# EAGLE library part 2129691-1 (library 2129691-1)
Conn USB 3.1 Type C RCP 24 POS Solder RA SMD 24 Terminal 1 Port T/R
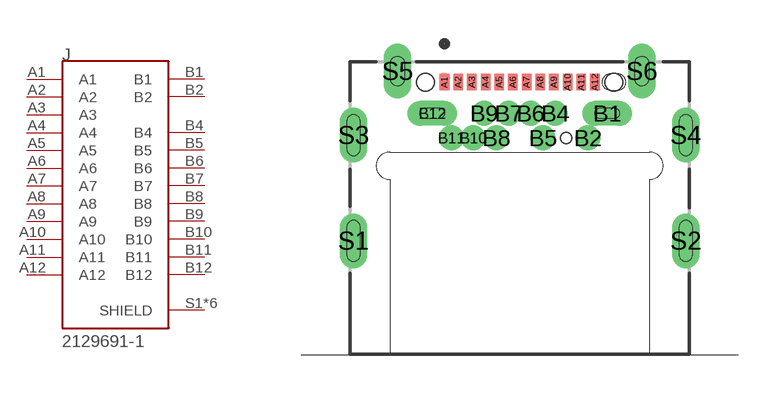
[diagram p0: symbol with the pads of TE_2129691-1; footprint TE_2129691-1]

Designator prefix J

## 2129691-1 (AVAILABILITY: Unavailable; CENTERLINE_PITCH: .5 mm[.019 in]; COMMENT: 2129691-1; DESCRIPTION: USB3.1 TYPE-C REC MID-MOUNT 0.485 HYBRID; MF: TE Connectivity; MP: 2129691-1; NUMBER_OF_POSITIONS: 24; PACKAGE: None; PRICE: None; PRODUCT_TYPE: Connector; TE_PURCHASE_URL: https://www.te.com/usa-en/product-2129691-1.html?te_bu=Cor&te_type=disp&te_campaign=seda_glo_cor-seda-global-disp-prtnr-fy19-seda-model-bom-cta_sma-317_1&elqCampaignId=32493)  [TE_2129691-1]
A1  A1  pas
A2  A2  pas
A3  A3  pas
A4  A4  pas
A5  A5  pas
A6  A6  pas
A7  A7  pas
A8  A8  pas
A9  A9  pas
A10  A10  pas
A11  A11  pas
A12  A12  pas
B1  B1  pas
B2  B2  pas
B4  B4  pas
B5  B5  pas
B6  B6  pas
B7  B7  pas
B8  B8  pas
B9  B9  pas
B10  B10  pas
B11  B11  pas
B12  B12  pas
S1  SHIELD  pas
S2  SHIELD  pas
S3  SHIELD  pas
S4  SHIELD  pas
S5  SHIELD  pas
S6  SHIELD  pas

## Footprint TE_2129691-1 (pad centres in mm)
smd 0.35 x 0.6: A1 -2.75,4.6; A2 -2.25,4.6; A3 -1.75,4.6; A4 -1.25,4.6; A5 -0.75,4.6; A6 -0.25,4.6; A7 0.25,4.6; A8 0.75,4.6; A9 1.25,4.6; A10 1.75,4.6; A11 2.25,4.6; A12 2.75,4.6
drill 0.4 pad 0.65 long: B1 3.2,3.46; B12 -3.2,3.46
drill 0.4 pad 0.65: B2 2.5,2.56; B4 1.3,3.46; B5 0.85,2.56; B6 0.4,3.46; B7 -0.4,3.46; B8 -0.85,2.56; B9 -1.3,3.46; B10 -1.7,2.56; B11 -2.5,2.56
drill 0.5 pad 1 long: S1 -6.075,-1.2; S2 6.075,-1.2; S3 -6.075,2.66; S4 6.075,2.66; S5 -4.465,5; S6 4.465,5
hole 0.65 at -3.45,4.6
hole 0.65 at 3.45,4.6
hole 0.4 at 1.7,2.56